# Altium footprint library CM2009.PcbLib: 2 footprints
Each footprint in its own frame and in the unit in brackets; x right, y up, seen from the top. Pads: shape width x height; smd on the part's side, far side on the other; paste and mask are expansions set on the pad; w line width, h text height; cw(c..) or ccw(c..) is an arc to the next point about the centre after c.
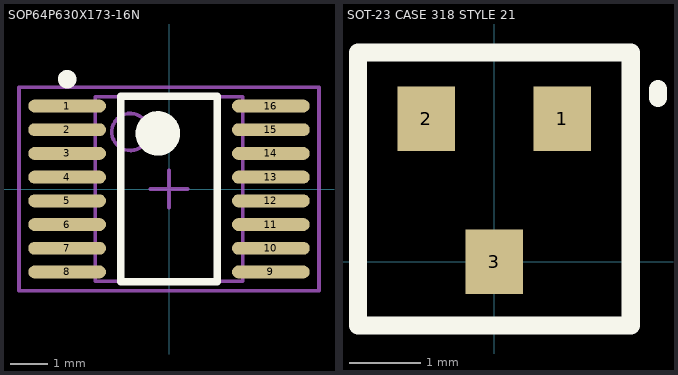
[diagram p0: the footprints below, top view; thin cyan lines are the x and y axes]

## SOP64P630X173-16N [mm] "SOP, 16-Leads, Body 5.0x4.0mm (max), Pitch 0.64mm, IPC Medium Density"
height 1.73
pads (16):
  oval 2.1x0.35 smd: 1(-2.75,2.24) 2(-2.75,1.6) 3(-2.75,0.96) 4(-2.75,0.32) 5(-2.75,-0.32) 6(-2.75,-0.96) 7(-2.75,-1.6) 8(-2.75,-2.24) 9(2.75,-2.24) 10(2.75,-1.6) 11(2.75,-0.96) 12(2.75,-0.32) 13(2.75,0.32) 14(2.75,0.96) 15(2.75,1.6) 16(2.75,2.24)
Top Overlay:
  circle w0.25: c-2.75,2.965 r0.125
  circle w0.6: c-0.3,1.5 r0.3
  lines w0.2: -1.3,-2.5 -1.3,2.5 1.3,2.5 1.3,-2.5 -1.3,-2.5
Mechanical 13:
  circle w0.1: c-1.045,1.54 r0.5
  lines w0.1: -1.995,-2.49 -1.995,2.49 1.995,2.49 1.995,-2.49 -1.995,-2.49
Mechanical 15:
  lines w0.1: -0.5,0 0.5,0 ; 0,-0.5 0,0.5 ; -4.05,-2.75 -4.05,2.75 4.05,2.75 4.05,-2.75 -4.05,-2.75
3D body: height 1.73, standoff 0.1, extent -1.995,-2.49 1.995,2.49

## SOT-23 CASE 318 STYLE 21 [mm]
pads (3):
  rect 0.8x0.9 smd: 1(0.95,2) 2(-0.95,2) 3(0,0)
Top Overlay:
  lines w0.254: 2.286,2.286 2.286,2.413 ; -1.905,-0.889 1.905,-0.889 1.905,2.921 -1.905,2.921 -1.905,-0.889
3D body: height 1, standoff 0, extent -1.524,0 1.524,2.032